# Altium schematic symbol library SCH - POWER - LINEAR VREG - TI TPS7A19DRB.SchLib: 1 symbol
Pins are listed as number, name and electrical type; pins without a type are passive.

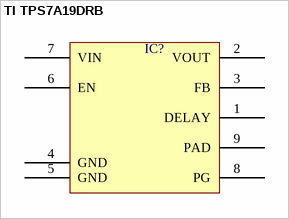
[diagram p0: symbol TI TPS7A19DRB]

## TI TPS7A19DRB
designator IC?  (value not drawn)
pins: 1 DELAY, 2 VOUT, 3 FB, 4 GND, 5 GND, 6 EN, 7 VIN, 8 PG, 9 PAD